# Altium footprint library ArduinoDue.PcbLib: 4 footprints
Each footprint in its own frame and in the unit in brackets; x right, y up, seen from the top. Pads: shape width x height; smd on the part's side, far side on the other; paste and mask are expansions set on the pad; w line width, h text height; cw(c..) or ccw(c..) is an arc to the next point about the centre after c.
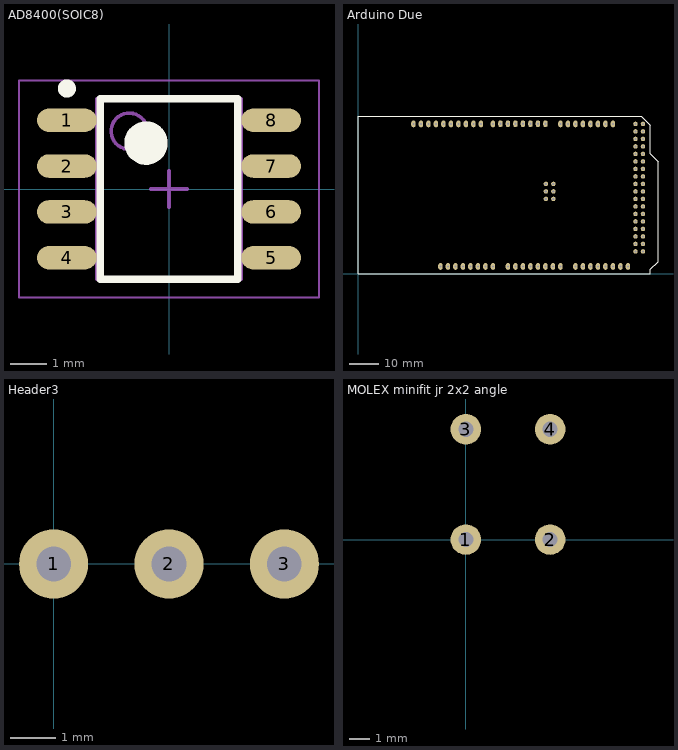
[diagram p0: the footprints below, top view; thin cyan lines are the x and y axes]

## AD8400(SOIC8) [mm] "SOIC, 8-Leads, Body 4.90x3.90mm, Pitch 1.27mm, IPC Low Density"
height 1.75
pads (8):
  oval 1.65x0.65 smd: 1(-2.825,1.905) 2(-2.825,0.635) 3(-2.825,-0.635) 4(-2.825,-1.905) 5(2.825,-1.905) 6(2.825,-0.635) 7(2.825,0.635) 8(2.825,1.905)
Top Overlay:
  circle w0.25: c-2.825,2.78 r0.125
  circle w0.6: c-0.635,1.27 r0.3
  lines w0.2: -1.905,-2.5 -1.905,2.5 1.905,2.5 1.905,-2.5 -1.905,-2.5
Mechanical 13:
  circle w0.1: c-1.1,1.6 r0.5
  lines w0.1: -2,-2.5 -2,2.5 2,2.5 2,-2.5 -2,-2.5
Mechanical 15:
  lines w0.05: -4.15,-3 -4.15,3 4.15,3 4.15,-3 -4.15,-3
  lines w0.1: -0.5,0 0.5,0 ; 0,-0.5 0,0.5
3D body: height 1.75, standoff 0.1, extent -2,-2.5 2,2.5

## Arduino Due [mil] "Arduino Due Ghost Footprint"
pads (92):
  oval 60x90 hole 30: 1(1100,100) 2(1200,100) 3(1300,100) 4(1400,100) 5(1500,100) 6(1600,100) 7(1700,100) 8(1800,100) 9(2000,100) 10(2100,100) 11(2200,100) 12(2300,100) 13(2400,100) 14(2500,100) 15(2600,100) 16(2700,100) 17(2900,100) 18(3000,100) 19(3100,100) 20(3200,100) 21(3300,100) 22(3400,100) 23(3500,100) 24(3600,100) 61(3400,2000) 62(3300,2000) 63(3200,2000) 64(3100,2000) 65(3000,2000) 66(2900,2000) 67(2800,2000) 68(2700,2000) 69(2500,2002.5) 70(2400,2002.5) 71(2300,2002.5) 72(2200,2002.5) 73(2100,2002.5) 74(2000,2002.5) 75(1900,2002.5) 76(1800,2000) 77(1640,2000) 78(1540,2000) 79(1440,2000) 80(1340,2000) 81(1240,2000) 82(1140,2000) 83(1040,2000) 84(940,2000) 85(840,2000) 86(740,2000)
  round 60 hole 30: 25(3700,300) 26(3700,400) 27(3700,500) 28(3700,600) 29(3700,700) 30(3700,800) 31(3700,900) 32(3700,1000) 33(3700,1100) 34(3700,1200) 35(3700,1300) 36(3700,1400) 37(3700,1500) 38(3700,1600) 39(3700,1700) 40(3700,1800) 41(3700,1900) 42(3700,2000) 43(3800,300) 44(3800,400) 45(3800,500) 46(3800,600) 47(3800,700) 48(3800,800) 49(3800,900) 50(3800,1000) 51(3800,1100) 52(3800,1200) 53(3800,1300) 54(3800,1400) 55(3800,1500) 56(3800,1600) 57(3800,1700) 58(3800,1800) 59(3800,1900) 60(3800,2000) 87(2505,1200) 88(2605,1200) 89(2505,1100) 90(2605,1100) 91(2505,1000) 92(2605,1000)
Top Overlay:
  lines w10: 0,0 0,2100 3780,2100 3795,2085 3895,1985 3895,1600 4000,1495 4000,160 3900,60 3900,0 3700,0 0,0
Mechanical 1:
  region: 840,2265
Multi-Layer:
  circle w10: c550,100 r57.5
  circle w10: c600,2000 r57.5
  circle w10: c3800,100 r57.5
  circle w10: c3550,2000 r57.5

## Header3 [mil]
pads (3):
  round 60 hole 30: 1(0,0) 2(100,0) 3(200,0)

## MOLEX minifit jr 2x2 angle [mil]
pads (4):
  round 60 hole 30: 1(0,0) 2(165.35,0) 3(0,216.54) 4(165.35,216.54)
Multi-Layer:
  circle w10: c82.68,-287.4 r55.12